# EAGLE library part CORTEX-M-DBG (library SPEAR-general)
Cortex-M Debug Header Standard debug/programming header used for programming Cortex parts. Does not include shroud but does have key pin removed.
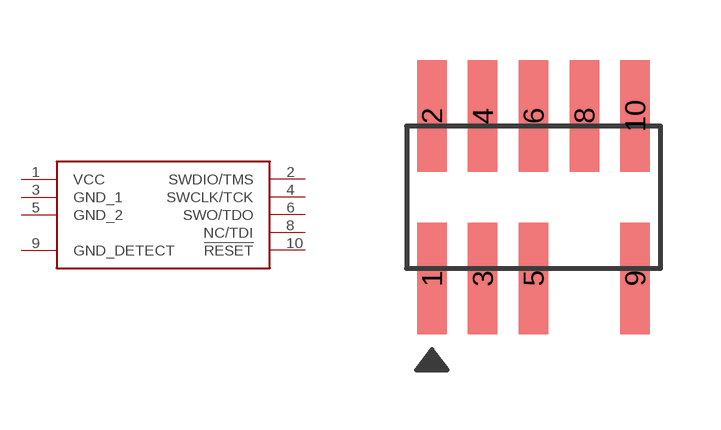
[diagram p4: symbol with the pads of FTSH-105-01-F-DV-007; footprint FTSH-105-01-F-DV-007]

Designator prefix JP

## CORTEX-M-DBG  [FTSH-105-01-F-DV-007]
1  VCC
2  SWDIO/TMS
3  GND_1
4  SWCLK/TCK
5  GND_2
6  SWO/TDO
8  NC/TDI
9  GND_DETECT
10  !RESET

## Footprint FTSH-105-01-F-DV-007 (pad centres in mm)
Cortex M Debug Header Includes mounting holes for if you specify the -A option. Also includes "Key Pin" being removed. Footprint Documentation <http://suddendocs.samtec.com/prints/ftsh-1xx-xx-xxx-dv-xxx-footprint.pdf>
smd 0.737 x 2.794: 1 -2.54,-2.032; 2 -2.54,2.032; 3 -1.27,-2.032; 4 -1.27,2.032; 5 0,-2.032; 6 0,2.032; 8 1.27,2.032; 9 2.54,-2.032; 10 2.54,2.032